# Altium footprint library PcbLib1.PcbLib: 5 footprints
Each footprint in its own frame and in the unit in brackets; x right, y up, seen from the top. Pads: shape width x height; smd on the part's side, far side on the other; paste and mask are expansions set on the pad; w line width, h text height; cw(c..) or ccw(c..) is an arc to the next point about the centre after c.
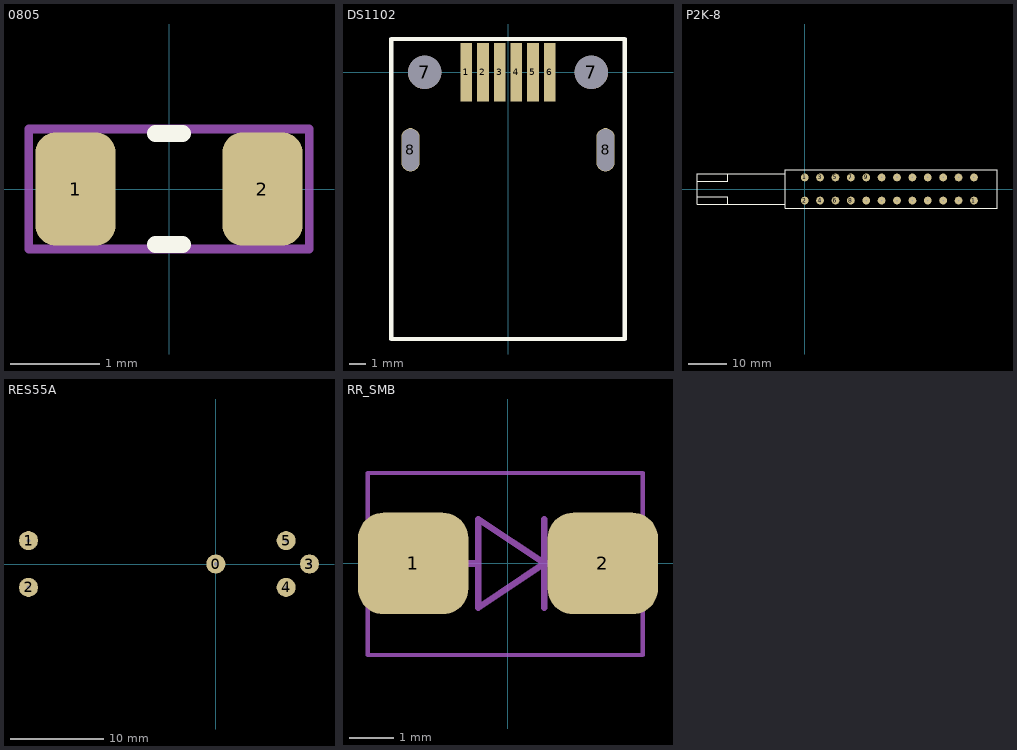
[diagram p0: the footprints below, top view; thin cyan lines are the x and y axes]

## 0805 [mm] "Chip Capacitor"
height 0.8
pads (2):
  rrect50% 0.9x1.27 smd: 1(-1.05,0) 2(1.05,0)
Top Overlay:
  lines w0.191: -0.15,-0.625 0.15,-0.625 ; -0.15,0.625 0.15,0.625
Mechanical 13:
  lines w0.1: -1.575,-0.675 1.575,-0.675 1.575,0.675 -1.575,0.675 -1.575,-0.675
3D body "CAPC-0805-T0.75-BN.stp": height 0.8, standoff 0.05, extent -1.05,-0.675 1.05,0.675

## DS1102 [mm]
pads (10):
  rect 0.7x3.5 smd: 1(-2.5,0) 2(-1.5,0) 3(-0.5,0) 4(0.5,0) 5(1.5,0) 6(2.5,0)
  round 2 hole 2: 7(-5,0) 7(5,0)
  oval 1.1x2.6 hole 1 slot 2.5 at 90 deg: 8(-5.85,-4.65) 8(5.85,-4.65)
Top Overlay:
  lines w0.254: -7,-16 7,-16 7,2 -7,2 -7,-16

## P2K-8 [mil]
pads (24):
  round 80 hole 15: 1(0,118.11) 1(1732.28,-118.11) 2(0,-118.11) 3(157.48,118.11) 4(157.48,-118.11) 5(314.96,118.11) 6(314.96,-118.11) 7(472.44,118.11) 8(472.44,-118.11) 9(629.92,118.11) 10(629.92,-118.11) 11(787.4,118.11) 12(787.4,-118.11) 13(944.88,118.11) 14(944.88,-118.11) 15(1102.36,118.11) 16(1102.36,-118.11) 17(1259.84,118.11) 18(1259.84,-118.11) 19(1417.32,118.11) 20(1417.32,-118.11) 21(1574.8,118.11) 22(1574.8,-118.11) 23(1732.28,118.11)
Top Overlay:
  lines w10: -1102.36,-78.74 -787.4,-78.74 -787.4,-157.48 ; -1102.36,78.74 -787.4,78.74 -787.4,157.48 ; -1102.36,118.11 -1102.36,-157.48 ; -1102.36,-157.48 -1102.36,157.48 -196.85,157.48 -196.85,-157.48 -1102.36,-157.48 ; -196.85,-196.85 1968.5,-196.85 1968.5,196.85 -196.85,196.85 -196.85,-196.85

## RES55A [mil]
pads (6):
  round 80 hole 15: 0(0,0) 1(-787.4,98.43) 2(-787.4,-98.43) 3(393.7,0) 4(295.28,-98.43) 5(295.28,98.43)
3D body: height 393.7, standoff 0, extent -767.72,-177.17 374.02,177.17

## RR_SMB [mm]
height 2.5
pads (2):
  rrect50% 2.5x2.3 smd mask+0.025: 1(-2.15,0) 2(2.15,0)
Bottom Overlay:
  lines w0.254: -2.3,-1.6 -2.3,-2.05 2.3,-2.05 2.3,-1.6 ; -2.3,1.6 -2.3,2.05 2.3,2.05 2.3,1.6 ; 0.5,-2.05 0.5,2
Mechanical 13:
  lines w0.1: -3.175,-2.075 -3.175,2.05 3.05,2.05 3.05,-2.075 -3.175,-2.075
  lines w0.15: -1.475,0 -0.675,0 ; 0.825,-1 0.825,1 ; 1.525,0 0.825,0 ; 0.825,0 -0.675,1 -0.675,-1 0.825,0
3D body "DO-214AA.stp": height 2.65, standoff 0, extent -2.75,-2.025 2.85,1.925